# Altium integrated library RESISTOR.IntLib: 34 symbols
Pins are listed as number, name and electrical type; pins without a type are passive.

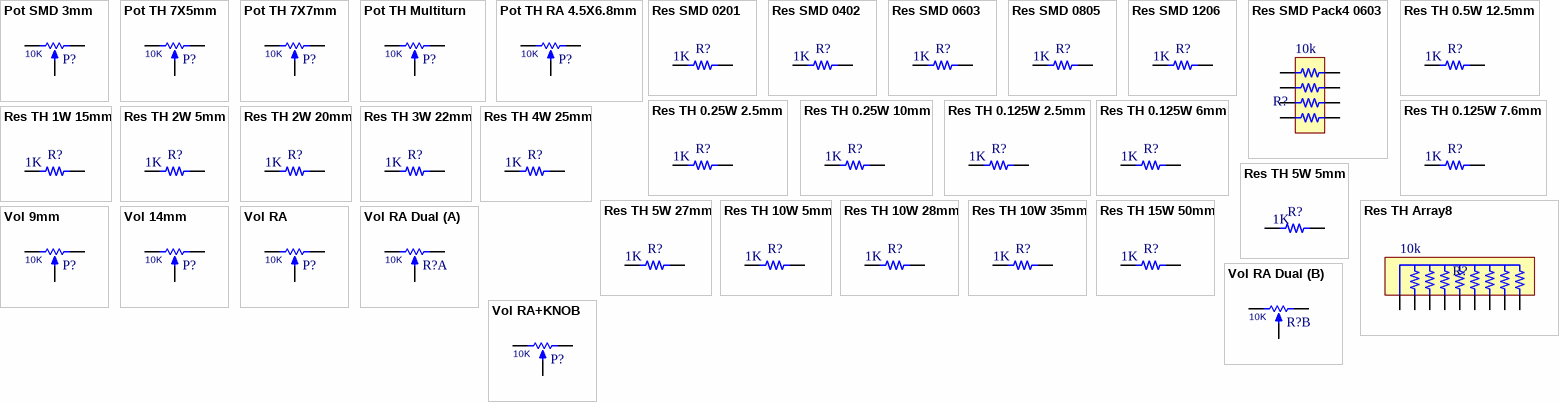
[diagram p0: symbols Pot SMD 3mm to Vol RA+KNOB]

## Pot SMD 3mm
designator P?  value 10K
footprint POT SMD 3 (POT SMD, 3.0X3.0mm, Trimming PVG3A PVZ3A)
pins: 1 TOP, 2 TAP, 3 BOT

## Pot TH 7X5mm
designator P?  value 10K
footprint POT TH 7X5 (POT, TRIM, 7.5X5.0mm, pitch: 5.0mm)
pins: 1 TOP, 2 TAP, 3 BOT

## Pot TH 7X7mm
designator P?, comment 10K
VALUE: 10K
footprint POT TH 7X7 (POT, TRIM, 7.0X7.0mm, pitch: 2.5mm, MURATA, 3306F)
pins: 1 TOP, 2 TAP, 3 BOT

## Pot TH Multiturn
designator P?, comment 10K
VALUE: 10K
footprint POT MULTITURN (POT, TRIM, 10.0X5.0mm, pitch: 2.5mm 3299W 3296W S64W)
pins: 1 TOP, 2 TAP, 3 BOT

## Pot TH RA 4.5X6.8mm
designator P?, comment 10K
VALUE: 10K
footprint POT TH RA 4.5X6.8 (POT, TRIM, 4.5X6.8mm 3306W)
pins: 1 TOP, 2 TAP, 3 BOT

## Res SMD 0201
designator R?, comment 1K
SMD Resistor; Value: 1K
footprint RES 0201 (Chip Resistor, 2-Leads, Body 0.60x0.30mm, IPC Medium Density)
pins: 1, 2

## Res SMD 0402
designator R?, comment 1K
SMD Resistor; Value: 1K
footprint RES 0402 (Chip Resistor, 2-Leads, Body 1.0x0.5mm, IPC Medium Density)
pins: 1, 2

## Res SMD 0603
designator R?, comment 1K
SMD Resistor; Value: 1K
footprint RES 0603 (Chip Resistor, 2-Leads, Body 1.60x0.80mm, IPC Medium Density)
pins: 1, 2

## Res SMD 0805
designator R?, comment 1K
SMD Resistor; Value: 1K
footprint RES 0805 (Chip Resistor, 2-Leads, Body 2.00x1.25mm, IPC Medium Density)
pins: 1, 2

## Res SMD 1206
designator R?, comment 1K
SMD Resistor; Value: 1K
footprint RES 1206 (Chip Resistor, 2-Leads, Body 3.13x1.55mm, IPC Medium Density)
pins: 1, 2

## Res SMD Pack4 0603
designator R?, comment 10k
SMD Resistor Pack; Value: 10k
footprint RES PACK 0603
pins: 1, 2, 3, 4, 5, 6, 7, 8

## Res TH 0.5W 12.5mm
designator R?, comment 1K
TH Resistor; Value: 1K
footprint RES TH 0.5W P12.5 (RESISTOR 0.5 WATT, AXIAL0.5)
pins: 1, 2

## Res TH 0.25W 2.5mm
designator R?, comment 1K
TH Resistor; Value: 1K
footprint RES TH 0.25W STAND P2.5 (RESISTOR 1/4 WATT, AXIAL0.4)
pins: 1, 2

## Res TH 0.25W 10mm
designator R?, comment 1K
TH Resistor; Value: 1K
footprint RES TH 0.25W P10 (RESISTOR 1/4 WATT, AXIAL0.4)
pins: 1, 2

## Res TH 0.125W 2.5mm
designator R?, comment 1K
TH Resistor; Value: 1K
footprint RES TH 0.125W STAND P2.5 (RESISTOR 1/8 WATT, AXIAL0.25)
pins: 1, 2

## Res TH 0.125W 6mm
designator R?, comment 1K
TH Resistor; Value: 1K
footprint RES TH 0.125W SMALL P6 (RESISTOR 1/8 WATT, AXIAL0.25)
pins: 1, 2

## Res TH 0.125W 7.6mm
designator R?, comment 1K
TH Resistor; Value: 1K
footprint RES TH 0.125W P7.6 (RESISTOR 1/8 WATT, AXIAL0.3 INCH SPACING)
pins: 1, 2

## Res TH 1W 15mm
designator R?, comment 1K
TH Resistor; Value: 1K
footprint RES TH 1W P15 (RESISTOR 1 WATT, AXIAL0.6)
pins: 1, 2

## Res TH 2W 5mm
designator R?, comment 1K
TH Resistor; Value: 1K
footprint RES TH 2W STAND P5 (RESISTOR 2 WATT, AXIAL0.8)
pins: 1, 2

## Res TH 2W 20mm
designator R?, comment 1K
TH Resistor; Value: 1K
footprint RES TH 2W P20 (RESISTOR 2 WATT, AXIAL0.8)
pins: 1, 2

## Res TH 3W 22mm
designator R?, comment 1K
TH Resistor; Value: 1K
footprint RES TH 3W P22 (RESISTOR 3 WATT, AXIAL0.9)
pins: 1, 2

## Res TH 4W 25mm
designator R?, comment 1K
TH Resistor; Value: 1K
footprint RES TH 4W P25 (RESISTOR 4 WATT, AXIAL1.0)
pins: 1, 2

## Res TH 5W 5mm
designator R?, comment 1K
TH Resistor; Value: 1K
footprint RES TH 5W STAND P5 (RESISTOR 5 WATT, AXIAL1.1)
pins: 1, 2

## Res TH 5W 27mm
designator R?, comment 1K
TH Resistor; Value: 1K
footprint RES TH 5W P27 (RESISTOR 5 WATT, AXIAL1.1)
pins: 1, 2

## Res TH 10W 5mm
designator R?, comment 1K
TH Resistor; Value: 1K
footprint RES TH 10W STAND P5 (RESISTOR 10 WATT, Wirewound)
pins: 1, 2

## Res TH 10W 28mm
designator R?, comment 1K
TH Resistor; Value: 1K
footprint RES TH 10W P28 (RESISTOR 10 WATT, AXIAL1.1)
pins: 1, 2

## Res TH 10W 35mm
designator R?, comment 1K
TH Resistor; Value: 1K
footprint RES TH 10W P35 (RESISTOR 10 WATT, AXIAL1.4)
pins: 1, 2

## Res TH 15W 50mm
designator R?, comment 1K
TH Resistor; Value: 1K
footprint RES TH 15W P50 (RESISTOR 15 WATT, AXIAL2.0)
pins: 1, 2

## Res TH Array8
designator R?, comment 10k
TH Resistor Array; Value: 10k
footprint RES TH ARRAY 8
pins: 1 Com, 2, 3, 4, 5, 6, 7, 8, 9

## Vol 9mm
designator P?, comment 10K
VALUE: 10K
footprint VOL 9 (VOULME  9mm Alpha Alps, RV09ACF EVUF)
pins: 1 TOP, 2 TAP, 3 BOT

## Vol 14mm
designator P?, comment 10K
VALUE: 10K
footprint VOL 14 (VOULME  14mm, RV141F-40E3)
pins: 1 TOP, 2 TAP, 3 BOT

## Vol RA
designator P?, comment 10K
VALUE: 10K
footprint VOL RA (VOULME RIGHT ANGLE)
pins: 1 TOP, 2 TAP, 3 BOT

## Vol RA Dual
designator R?, comment 10K
VALUE: 10K
footprint VOL RA DUAL (VOULME RIGHT ANGLE DUAL 3RP/1610G)
part A pins: A1 TOP, A2 TAP, A3 BOT
part B pins: B1 TOP, B2 TAP, B3 BOT

## Vol RA+KNOB
designator P?, comment 10K
VALUE: 10K
footprint VOL RA KNOB (VOULME RIGHT ANGLE)
pins: 1 TOP, 2 TAP, 3 BOT